# EAGLE library part 42PIN_BREAKOUT (library ARVP)
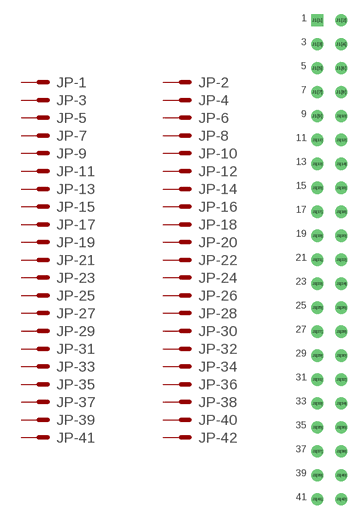
[diagram p16: symbol with the pads of 42PIN_BREAKOUT; footprint 42PIN_BREAKOUT]

Designator prefix JP; gates -1=M -2=M -3=M -4=M -5=M -6=M -7=M -8=M -9=M -10=M -11=M -12=M -13=M -14=M -15=M -16=M -17=M -18=M -19=M -20=M -21=M -22=M -23=M -24=M -25=M -26=M -27=M -28=M -29=M -30=M -31=M -32=M -33=M -34=M -35=M -36=M -37=M -38=M -39=M -40=M -41=M -42=M

## 42PIN_BREAKOUT  [42PIN_BREAKOUT]
J1[1]  -1:S  pas
J1[2]  -2:S  pas
J1[3]  -3:S  pas
J1[4]  -4:S  pas
J1[5]  -5:S  pas
J1[6]  -6:S  pas
J1[7]  -7:S  pas
J1[8]  -8:S  pas
J1[9]  -9:S  pas
J1[10]  -10:S  pas
J1[11]  -11:S  pas
J1[12]  -12:S  pas
J1[13]  -13:S  pas
J1[14]  -14:S  pas
J1[15]  -15:S  pas
J1[16]  -16:S  pas
J1[17]  -17:S  pas
J1[18]  -18:S  pas
J1[19]  -19:S  pas
J1[20]  -20:S  pas
J1[21]  -21:S  pas
J1[22]  -22:S  pas
J1[23]  -23:S  pas
J1[24]  -24:S  pas
J1[25]  -25:S  pas
J1[26]  -26:S  pas
J1[27]  -27:S  pas
J1[28]  -28:S  pas
J1[29]  -29:S  pas
J1[30]  -30:S  pas
J1[31]  -31:S  pas
J1[32]  -32:S  pas
J1[33]  -33:S  pas
J1[34]  -34:S  pas
J1[35]  -35:S  pas
J1[36]  -36:S  pas
J1[37]  -37:S  pas
J1[38]  -38:S  pas
J1[39]  -39:S  pas
J1[40]  -40:S  pas
J1[41]  -41:S  pas
J1[42]  -42:S  pas

## Footprint 42PIN_BREAKOUT (pad centres in mm)
drill 0.8 square: J1[1] -1.778,28.702
drill 0.8: J1[2] 0.762,28.702; J1[3] -1.778,26.162; J1[4] 0.762,26.162; J1[5] -1.778,23.622; J1[6] 0.762,23.622; J1[7] -1.778,21.082; J1[8] 0.762,21.082; J1[9] -1.778,18.542; J1[10] 0.762,18.542; J1[11] -1.778,16.002; J1[12] 0.762,16.002; J1[13] -1.778,13.462; J1[14] 0.762,13.462; J1[15] -1.778,10.922; J1[16] 0.762,10.922; J1[17] -1.778,8.382; J1[18] 0.762,8.382; J1[19] -1.778,5.842; J1[20] 0.762,5.842; J1[21] -1.778,3.302; J1[22] 0.762,3.302; J1[23] -1.778,0.762; J1[24] 0.762,0.762; J1[25] -1.778,-1.778; J1[26] 0.762,-1.778; J1[27] -1.778,-4.318; J1[28] 0.762,-4.318; J1[29] -1.778,-6.858; J1[30] 0.762,-6.858; J1[31] -1.778,-9.398; J1[32] 0.762,-9.398; J1[33] -1.778,-11.938; J1[34] 0.762,-11.938; J1[35] -1.778,-14.478; J1[36] 0.762,-14.478; J1[37] -1.778,-17.018; J1[38] 0.762,-17.018; J1[39] -1.778,-19.558; J1[40] 0.762,-19.558; J1[41] -1.778,-22.098; J1[42] 0.762,-22.098